# Altium schematic symbol library ArduinoUnoR3.SchLib: 1 symbol
Pins are listed as number, name and electrical type; pins without a type are passive.

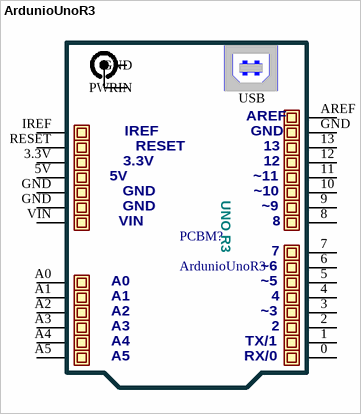
[diagram p0: symbol ArdunioUnoR3]

## ArdunioUnoR3
designator PCBM?
ArdunioUnoR3 Universal SCH Symbol / (C) 230232
pins: 0, 1, 2, 3, 3.3V, 4, 5, 5V, 6, 7, 8, 9, 10, 11, 12, 13, A0, A1, A2, A3, A4, A5, AREF, GND, GND, GND, IREF, RESET, VIN
text: PWRIN; USB; ~11; UNO R3; ~10; ~9; ~6; ~5; ~3; TX/1; RX/0